# Altium footprint library urover.PCBLIB: 175 footprints (part 9 of 11)
Each footprint in its own frame and in the unit in brackets; x right, y up, seen from the top. Pads: shape width x height; smd on the part's side, far side on the other; paste and mask are expansions set on the pad; w line width, h text height; cw(c..) or ccw(c..) is an arc to the next point about the centre after c.
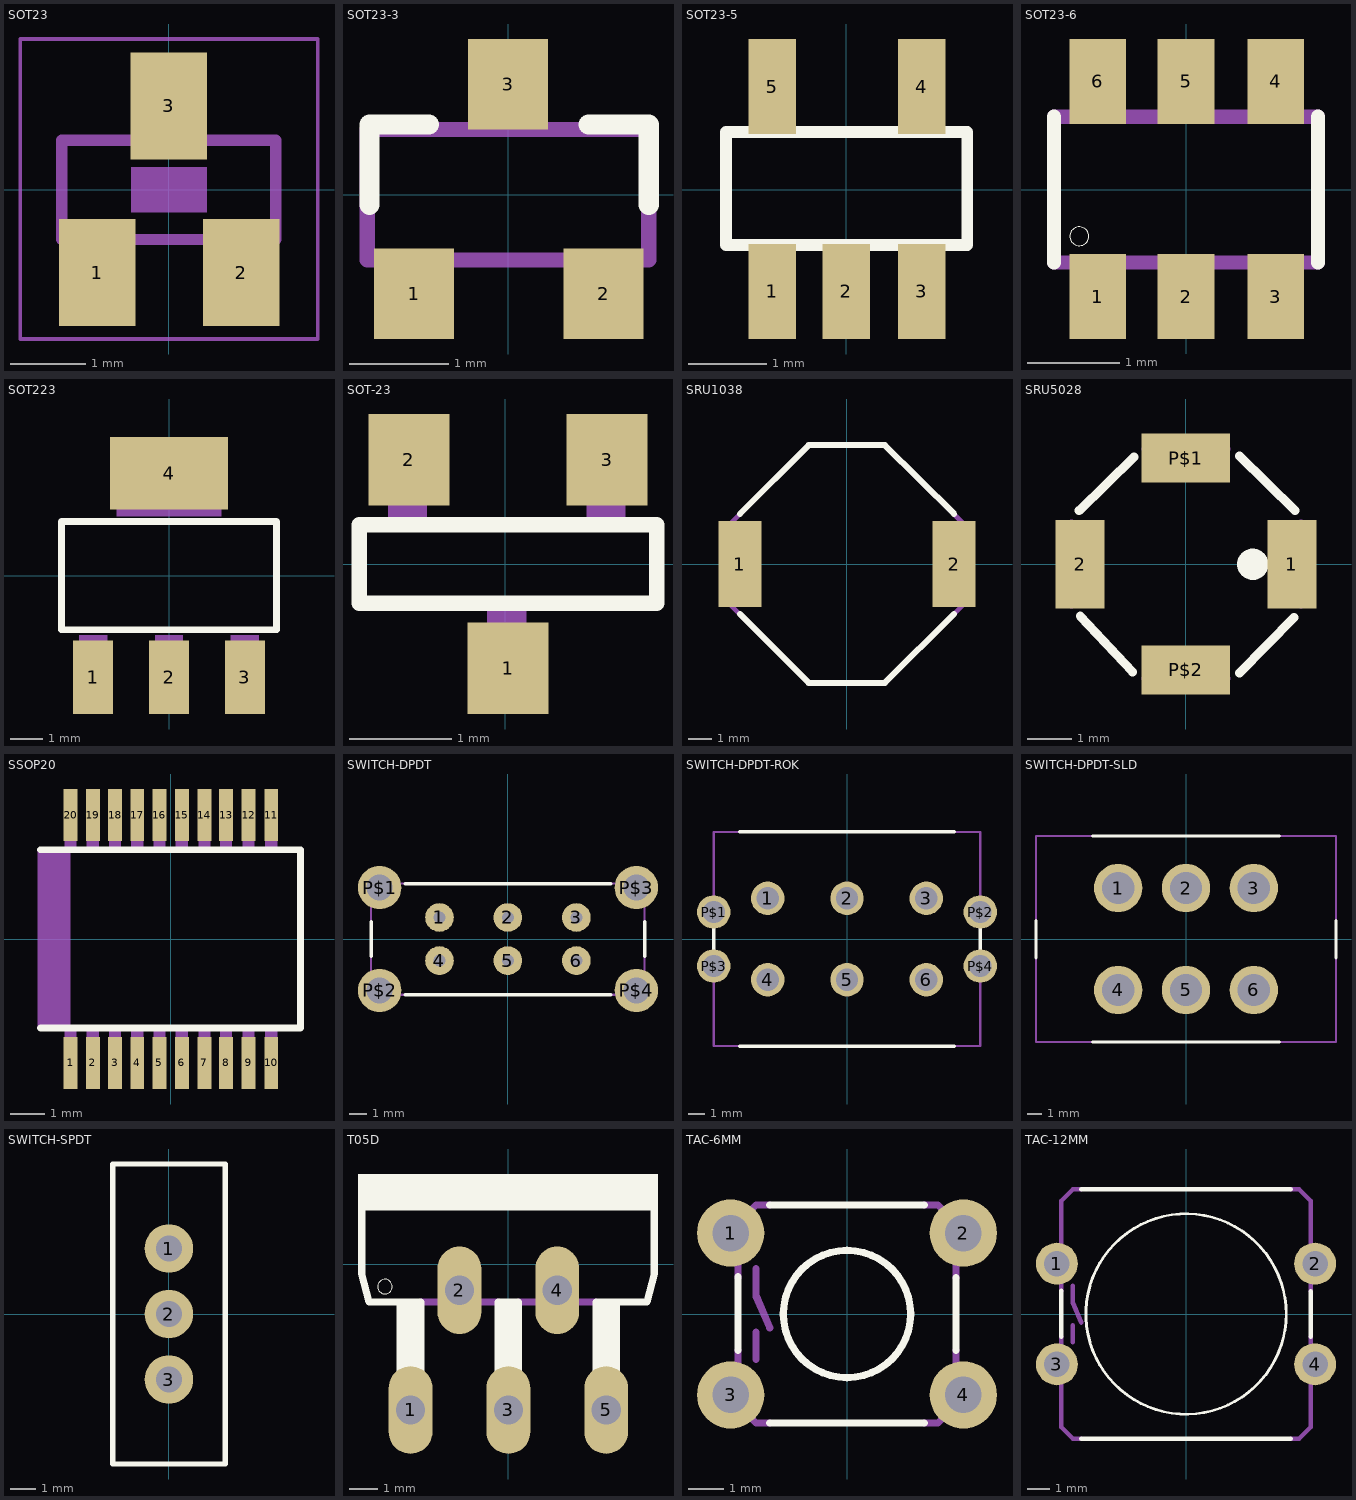
[diagram p8: the footprints below, top view; thin cyan lines are the x and y axes]

## SOT23 [mil]
pads (3):
  rect 40x56 smd: 1(-37.4,-43.31) 2(38,-43.31) 3(0,44)
Mechanical 6:
  rectangle: -19.69,-11.81 20,12
Mechanical 16:
  rectangle: -9,28 9,51
  rectangle: 28,-51 46,-28
  rectangle: -46,-51 -28,-28
  lines w6: -55.98,-25.98 56,-25.98 56,26 -55.98,26 -55.98,-25.98
Mechanical 27:
  lines w2: -77.68,-78.07 78,-78.07 78,79 -77.68,79 -77.68,-78.07

## SOT23-3 [mil]
pads (3):
  rect 32x36 smd: 1(-37.4,-39.37) 2(38,-39.37) 3(0,44)
Top Overlay:
  lines w8: -55.12,-3.94 -55.12,28 -31.5,28 ; 32,28 56,28 56,-3.94
Mechanical 16:
  lines w6: -56,-26 56,-26 56,26 -56,26 -56,-26

## SOT23-5 [mil]
pads (5):
  rect 24x48 smd: 1(-37.4,-51.42) 2(0,-51.42) 3(38,-51.42) 4(38,52) 5(-37.4,52)
Top Overlay:
  lines w6: -60.79,-28.03 61,-28.03 61,29 -60.79,29 -60.79,-28.03
Mechanical 16:
  rectangle: -46.75,29 -28.05,61
  rectangle: 29,29 47,61
  rectangle: -46.75,-60.78 -28.05,-28.05
  rectangle: -9.35,-60.78 10,-28.05
  rectangle: 29,-60.78 47,-28.05

## SOT23-6 [mil]
pads (6):
  rect 24x36 smd: 1(-37.4,-45.28) 2(0,-45.28) 3(38,-45.28) 4(38,46) 5(0,46) 6(-37.4,46)
Top Overlay:
  circle w0: c-45.28,-19.68 r4
  lines w6: -56.02,-30.75 -56.02,31 ; 56,-30.75 56,31
Mechanical 16:
  rectangle: -47.24,-55.12 -27.56,-31.5
  rectangle: -9.84,-55.12 10,-31.5
  rectangle: 28,-55.12 48,-31.5
  rectangle: 28,32 48,56
  rectangle: -9.84,32 10,56
  rectangle: -47.24,32 -27.56,56
  lines w6: -56.02,-30.75 56,-30.75 ; -56.02,31 56,31

## SOT223 [mil]
pads (4):
  rect 48x88 smd: 1(-91,-122) 2(0,-122) 3(91,-122)
  rect 142x87 smd: 4(0,123)
Top Overlay:
  lines w8: -129,-65 129,-65 129,65 -129,65 -129,-65
Mechanical 16:
  rectangle: -63,71 63,144
  rectangle: -17,-144 17,-71
  rectangle: -108,-144 -74,-71
  rectangle: 74,-144 108,-71
  rectangle: -63,71 63,144
  rectangle: -17,-144 17,-71
  rectangle: -108,-144 -74,-71
  rectangle: 74,-144 108,-71

## SOT-23 [mil]
pads (3):
  rect 31x35 smd: 1(1,-40) 2(-37,40) 3(39,40)
Top Overlay:
  lines w6: -56,-15 58,-15 58,15 -56,15 -56,-15
Mechanical 16:
  rectangle: 31,17 46,37
  rectangle: -45,17 -30,37
  rectangle: -7,-37 8,-17

## SRU1038 [mil]
pads (2):
  rect 71x142 smd: 1(-177.17,0) 2(178,0)
Top Overlay:
  lines w10: -177.17,-82.68 -62.99,-196.85 63,-196.85 178,-82.68 ; -177.17,83 -62.99,197 63,197 178,83
Mechanical 16:
  lines w8: -196.85,-62.99 -196.85,63 -62.99,197 63,197 197,63 197,-62.99 63,-196.85 -62.99,-196.85 -196.85,-62.99

## SRU5028 [mil]
pads (4):
  rect 44x79 smd: 1(95,0) 2(-94.49,0)
  rect 79x44 smd: P$1(0,95) P$2(0,-94.49)
Top Overlay:
  circle w16: c60,0 r6
  lines w8: -95.36,48 -46.43,96 ; -94.36,-46.43 -47.43,-96.36 ; 48,-97.36 97,-47.43 ; 48,97 98,48
Mechanical 16:
  lines w8: -102.36,-35.43 -102.36,36 ; -35.43,-102.36 36,-102.36 ; -35.43,103 36,103 ; 103,-35.43 103,36

## SSOP20 [mil]
pads (20):
  rect 16x60 smd: 1(-115.16,-142.72) 2(-89.57,-142.72) 3(-63.98,-142.72) 4(-38.39,-142.72) 5(-12.8,-142.72) 6(13,-142.72) 7(39,-142.72) 8(64,-142.72) 9(90,-142.72) 10(116,-142.72) 11(116,143) 12(90,143) 13(64,143) 14(39,143) 15(13,143) 16(-12.8,143) 17(-38.39,143) 18(-63.98,143) 19(-89.57,143) 20(-115.16,143)
Top Overlay:
  lines w8: -149.61,-102.36 150,-102.36 150,103 -149.61,103
Mechanical 4:
  rectangle: -153.54,-102.36 -115.16,103
Mechanical 16:
  rectangle: -122.16,-155 -108.16,-104
  rectangle: -96.57,-155 -82.57,-104
  rectangle: -70.98,-155 -56.98,-104
  rectangle: -45.39,-155 -31.39,-104
  rectangle: -19.8,-155 -5.8,-104
  rectangle: 6,-155 20,-104
  rectangle: 32,-155 46,-104
  rectangle: 57,-155 71,-104
  rectangle: 83,-155 97,-104
  rectangle: 109,-155 123,-104
  rectangle: 109,104 123,155
  rectangle: 83,104 97,155
  rectangle: 57,104 71,155
  rectangle: 32,104 46,155
  rectangle: 6,104 20,155
  rectangle: -19.79,104 -5.79,155
  rectangle: -45.38,104 -31.38,155
  rectangle: -70.97,104 -56.97,155
  rectangle: -96.56,104 -82.56,155
  rectangle: -122.15,104 -108.15,155

## SWITCH-DPDT [mil]
pads (10):
  round 66 hole 28: 1(-157.48,50) 2(0,50) 3(158,50) 4(-157.48,-49.21) 5(0,-49.21) 6(158,-49.21)
  round 100 hole 60: P$1(-295.28,119) P$2(-295.28,-118.11) P$3(296,119) P$4(296,-118.11)
Top Overlay:
  lines w8: -314.96,-39.37 -314.96,40 ; -236.22,-127.95 237,-127.95 ; -236.22,128 237,128 ; 315,-39.37 315,40
Mechanical 16:
  lines w5: -314.96,-127.95 -314.96,128 315,128 315,-127.95 -314.96,-127.95

## SWITCH-DPDT-ROK [mil]
pads (10):
  round 78 hole 52: 1(-185,95) 2(0,95) 3(185,95) 4(-185,-95) 5(0,-95) 6(185,-95) P$1(-311,63) P$2(311,63) P$3(-311,-63) P$4(311,-63)
Top Overlay:
  lines w8: -311,-50 -311,50 ; -250,-250 250,-250 ; -250,250 250,250 ; 311,-50 311,50
Mechanical 16:
  lines w5: -311,-250 -311,250 311,250 311,-250 -311,-250

## SWITCH-DPDT-SLD [mil]
pads (6):
  round 129 hole 86: 1(-181,136) 2(0,136) 3(181,136) 4(-181,-136) 5(0,-136) 6(181,-136)
Top Overlay:
  lines w8: -400,-50 -400,50 ; -250,-275 250,-275 ; -250,275 250,275 ; 400,-50 400,50
Mechanical 16:
  lines w5: -400,-275 -400,275 400,275 400,-275 -400,-275

## SWITCH-SPDT [mil]
pads (3):
  round 74 hole 40: 1(0,100) 2(0,0) 3(0,-100)
Top Overlay:
  lines w8: -85.63,-228.94 -85.63,229 86,229 86,-228.94 -85.63,-228.94

## T05D [mil]
pads (5):
  oval 60x120 hole 40: 1(-134,-200) 2(-67,-36) 3(0,-200) 4(67,-36) 5(134,-200)
Top Overlay:
  circle w0: c-169,-31 r10
  rectangle: -206,73 205,123
  rectangle: -153,-152 -115,-53
  rectangle: -19,-152 19,-53
  rectangle: 115,-152 153,-53
  lines w10: -201,79 -201,-13 -191,-52 -120,-52 ; -14,-52 14,-52 ; 120,-52 190,-52 200,-13 200,79
Mechanical 16:
  lines w10: -120,-52 -14,-52 ; 14,-52 120,-52

## TAC-6MM [mil]
pads (4):
  round 74 hole 40: 1(-128,89) 2(128,89) 3(-128,-89) 4(128,-89)
Top Overlay:
  circle w8: c0,0 r70
  lines w8: -120,-40 -120,41 ; -85,-120 85,-120 ; -85,120 85,120 ; 120,-40 120,40
Mechanical 16:
  lines w8: -120,-40 -120,-100 -100,-120 -85,-120 ; -120,40 -120,100 -100,120 -85,120 ; -100,-50 -100,-20 ; -100,50 -100,20 -85,-15 ; 85,-120 100,-120 120,-100 120,-40 ; 85,120 100,120 120,100 120,40

## TAC-12MM [mil]
pads (4):
  round 74 hole 45: 1(-228,89) 2(228,89) 3(-228,-89) 4(228,-89)
Top Overlay:
  circle w5: c0,0 r177
  lines w8: -220,-40 -220,41 ; -185,-220 185,-220 ; -185,220 185,220 ; 220,-40 220,40
Mechanical 16:
  lines w8: -220,-40 -220,-200 -200,-220 -185,-220 ; -220,40 -220,200 -200,220 -185,220 ; -200,-50 -200,-20 ; -200,50 -200,20 -185,-15 ; 185,-220 200,-220 220,-200 220,-40 ; 185,220 200,220 220,200 220,40